# Altium footprint library L298N模块.PcbLib: 1 footprints
Each footprint in its own frame and in the unit in brackets; x right, y up, seen from the top. Pads: shape width x height; smd on the part's side, far side on the other; paste and mask are expansions set on the pad; w line width, h text height; cw(c..) or ccw(c..) is an arc to the next point about the centre after c.
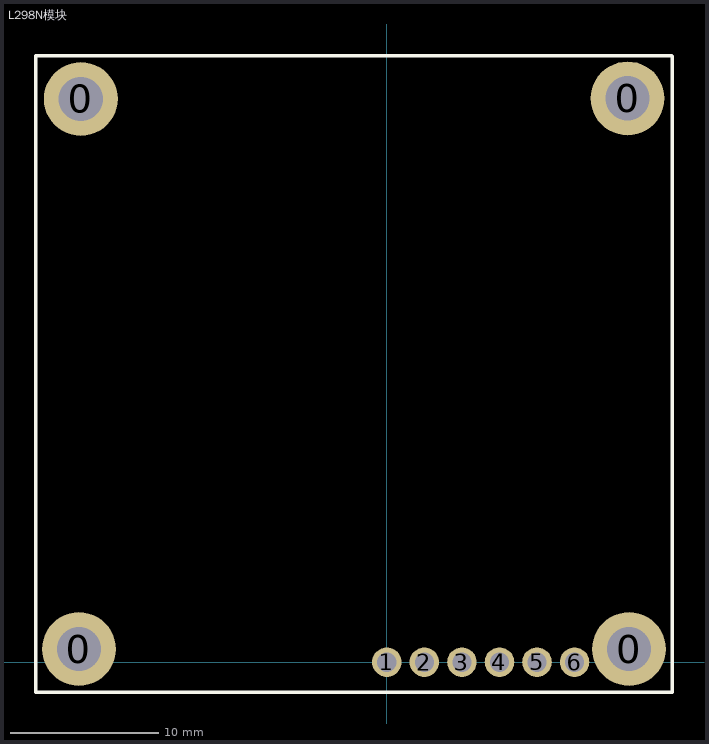
[diagram p0: the footprint, top view; thin cyan lines are the x and y axes]

## L298N模块 [mm]
pads (10):
  round 5 hole 3: 0(-20.828,0.889) 0(-20.701,38.1) 0(16.284,38.139) 0(16.383,0.889)
  round 2 hole 1.3: 1(0,0) 2(2.54,0) 3(5.08,0) 4(7.62,0) 5(10.16,0) 6(12.7,0)
Top Overlay:
  lines w0.254: -23.749,40.968 -23.749,-2.032 19.251,-2.032 ; -23.749,41.021 19.251,41.021 ; 19.304,-2.032 19.304,40.968